# Altium integrated library 2512_SMD_SHUNT.IntLib: 1 symbol
Pins are listed as number, name and electrical type; pins without a type are passive.

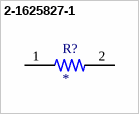
[diagram p0: symbol 2-1625827-1]

## 2-1625827-1
designator R?
TL3A R002 1% 2K RL; MP: 2-1625827-1; Package: None; Price: None; Value: *; Availability: Unavailable
footprint RESC6331X70N
pins: 1, 2